# EAGLE library part 87368-20 (library untitled)
RECEPTACAL
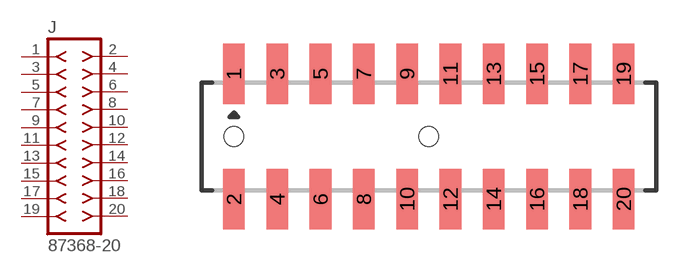
[diagram p189: symbol with the pads of 87368-20; footprint 87368-20]

Designator prefix J

## 87368-20  [87368-20]
1  1  pas
2  2  pas
3  3  pas
4  4  pas
5  5  pas
6  6  pas
7  7  pas
8  8  pas
9  9  pas
10  10  pas
11  11  pas
12  12  pas
13  13  pas
14  14  pas
15  15  pas
16  16  pas
17  17  pas
18  18  pas
19  19  pas
20  20  pas

## Footprint 87368-20 (pad centres in mm)
RECEPTACAL SMD Dual Row, Side Entry
smd 1 x 2.8: 1 -9,2.9; 2 -9,-2.9; 3 -7,2.9; 4 -7,-2.9; 5 -5,2.9; 6 -5,-2.9; 7 -3,2.9; 8 -3,-2.9; 9 -1,2.9; 10 -1,-2.9; 11 1,2.9; 12 1,-2.9; 13 3,2.9; 14 3,-2.9; 15 5,2.9; 16 5,-2.9; 17 7,2.9; 18 7,-2.9; 19 9,2.9; 20 9,-2.9
hole 0.914 at -9,0
hole 0.914 at 0,0